# EAGLE library part MGFW152415 (library regulators-switch-mode)
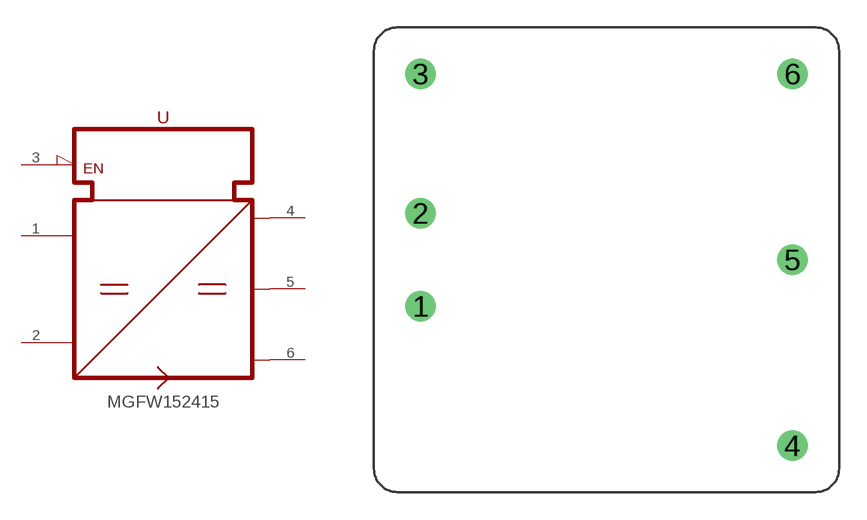
[diagram p1: symbol with the pads of DC/DC-C1; footprint DC/DC-C1]

Designator prefix U

## MGFW152415 (MOUSER: 436-MGFW152415)  [DC/DC-C1]
1  IN+  pwr
2  IN-  pwr
3  EN
4  V+  pwr
5  GND  pwr
6  V-  pwr

## Footprint DC/DC-C1 (pad centres in mm)
drill 1.1: 1 -10.16,-2.54; 2 -10.16,2.54; 3 -10.16,10.16; 4 10.16,-10.16; 5 10.16,0; 6 10.16,10.16